# Altium schematic symbol library Cap_Hitano.SchLib: 5 symbols
Pins are listed as number, name and electrical type; pins without a type are passive.

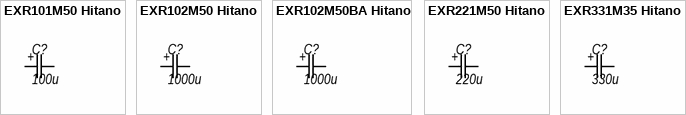
[diagram p0: symbols EXR101M50 Hitano to EXR331M35 Hitano]

## EXR101M50 Hitano
designator C?, comment 100u
footprint CAPPRD500W60D1000H1250
pins: 1, 2
text: +

## EXR102M50 Hitano
designator C?, comment 1000u
footprint CAPPRD750W80D1600H2600
pins: 1, 2
text: +

## EXR102M50BA Hitano
designator C?, comment 1000u
footprint CAPPRD500W60D1250H2500
pins: 1, 2
text: +

## EXR221M50 Hitano
designator C?, comment 220u
footprint CAPPRD500W60D1000H1600
pins: 1, 2
text: +

## EXR331M35 Hitano
designator C?, comment 330u
footprint CAPPRD500W60D1000H1600
pins: 1, 2
text: +